# Altium footprint library Ad_Hoc_Parts.PcbLib: 25 footprints (part 1 of 2)
Each footprint in its own frame and in the unit in brackets; x right, y up, seen from the top. Pads: shape width x height; smd on the part's side, far side on the other; paste and mask are expansions set on the pad; w line width, h text height; cw(c..) or ccw(c..) is an arc to the next point about the centre after c.
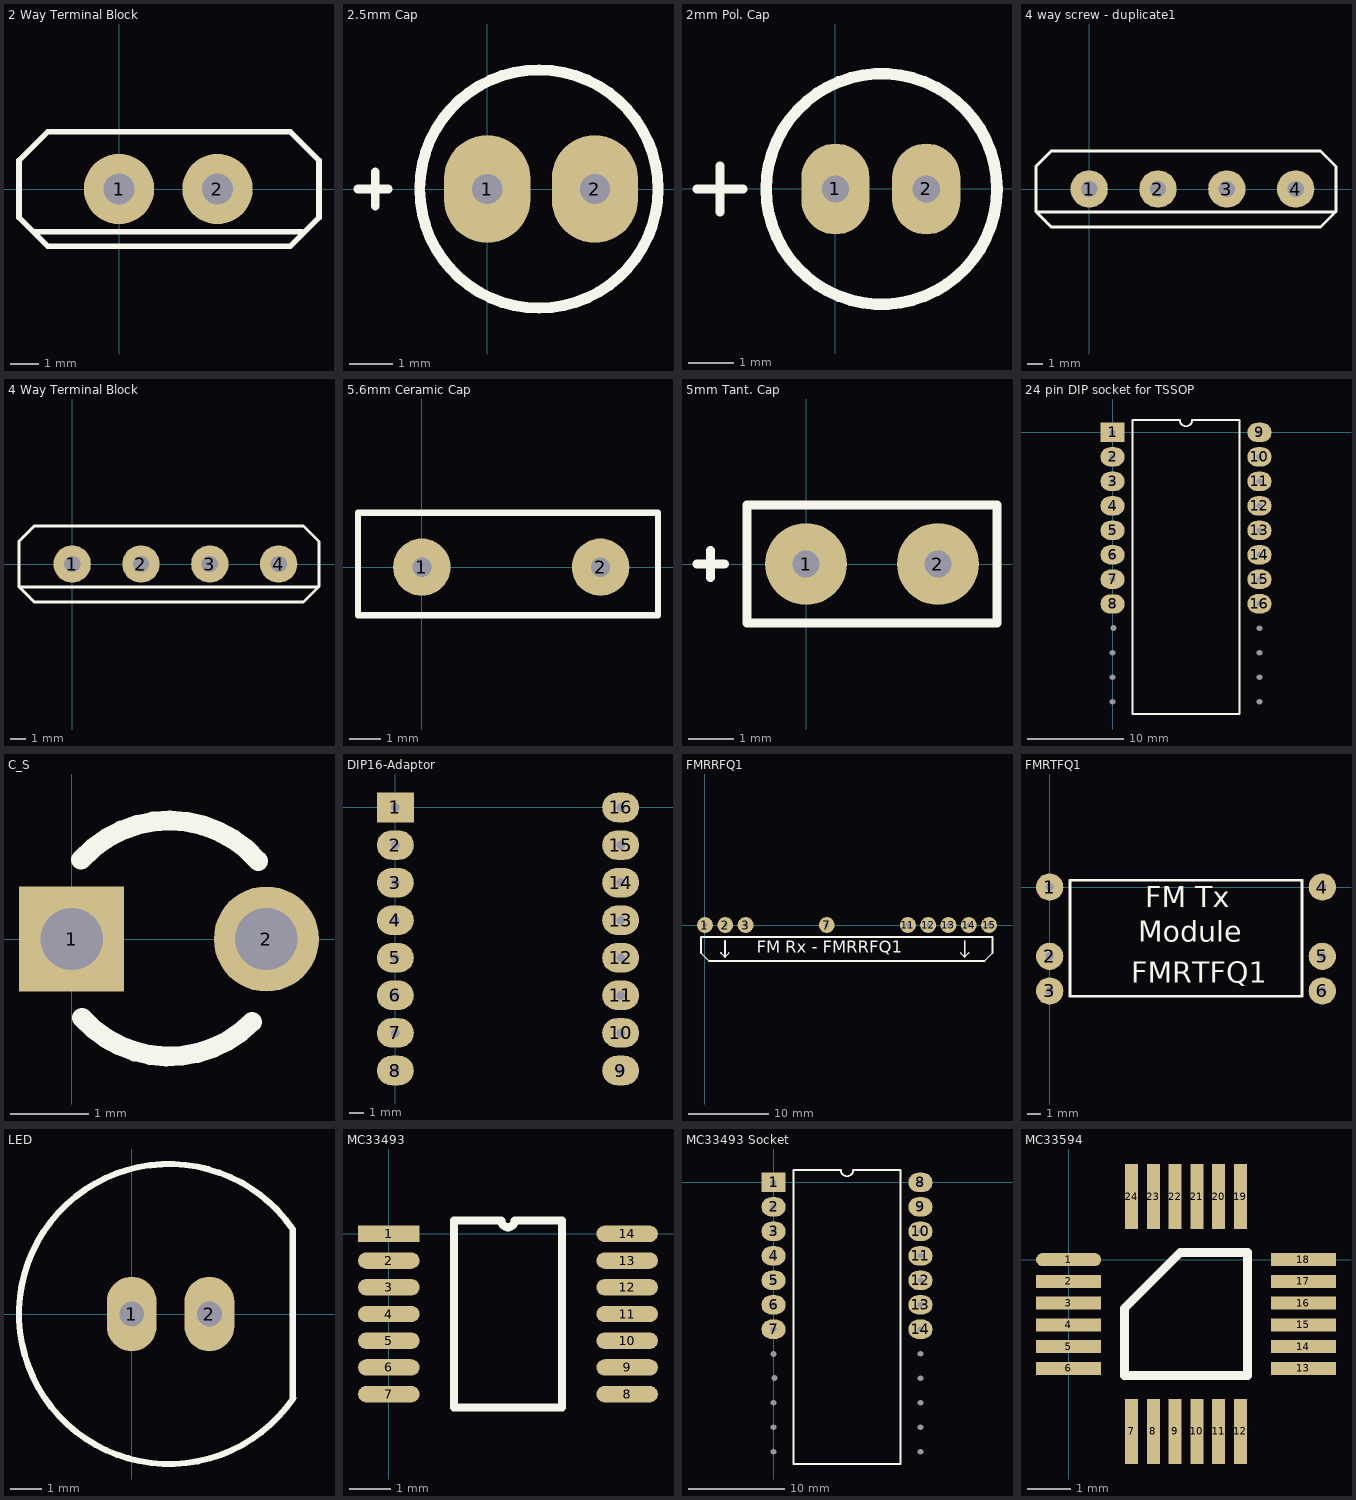
[diagram p0: the footprints below, top view; thin cyan lines are the x and y axes]

## 2 Way Terminal Block [mm]
pads (2):
  round 2.5 hole 1.1: 1(0,0) 2(3.5,0)
Top Overlay:
  lines w0.2: -3.048,-1.524 6.506,-1.524 ; -3.556,-1.016 -2.54,-2.032 2.032,-2.032 6.096,-2.032 7.112,-1.016 7.112,1.016 6.096,2.032 -2.54,2.032 -3.556,1.016 -3.556,-1.016

## 2.5mm Cap [mm]
pads (2):
  oval 2x2.5 hole 0.7: 1(0,0) 2(2.5,0)
Top Overlay:
  circle w0.254: c1.2,0 r2.766
  lines w0.2: -3,0 -2.7,0 -2.3,0 ; -2.6,-0.4 -2.6,0.4

## 2mm Pol. Cap [mm]
pads (2):
  oval 1.5x2 hole 0.6: 1(0,0) 2(2,0)
Top Overlay:
  circle w0.254: c1.016,0 r2.54
  lines w0.2: -3.048,0 -2.032,0 ; -2.54,-0.508 -2.54,0.508

## 4 way screw - duplicate1 [mm]
pads (4):
  round 2.5 hole 1.1: 1(0,0) 2(4.6,0) 3(9.2,0) 4(13.8,0)
Top Overlay:
  lines w0.2: -3.556,-1.524 16.476,-1.524 16.5,-1.5 ; -3.556,-1.524 -3.556,1.524 -2.54,2.54 15.46,2.54 16.5,1.5 16.5,-1.5 ; -3.556,-1.524 -2.54,-2.54 15.46,-2.54 16.5,-1.5

## 4 Way Terminal Block [mm]
pads (4):
  round 2.5 hole 1.1: 1(0,0) 2(4.6,0) 3(9.2,0) 4(13.8,0)
Top Overlay:
  lines w0.2: -3.556,-1.524 -2.54,-2.54 15.46,-2.54 16.5,-1.5 ; -3.556,-1.524 -3.556,1.524 -2.54,2.54 15.46,2.54 16.5,1.5 16.5,-1.5 ; -3.556,-1.524 16.476,-1.524 16.5,-1.5

## 5.6mm Ceramic Cap [mm]
pads (2):
  round 1.8 hole 0.6: 1(0,0) 2(5.6,0)
Top Overlay:
  lines w0.2: -2,-1.5 7.4,-1.5 7.4,1.7 -1.8,1.7 -2,1.7 -2,-1.5

## 5mm Tant. Cap [mm]
pads (2):
  round 1.8 hole 0.6: 1(0,0) 2(2.9,0)
Top Overlay:
  lines w0.2: -2.4,0 -1.8,0 ; -2.1,-0.3 -2.1,0.3 ; -1.3,-1.3 -1.3,1.3 4.2,1.3 4.2,-1.3 -1.3,-1.3

## 24 pin DIP socket for TSSOP [mm]
pads (24):
  rect 2.5x2 hole 0.6: 1(0,0)
  oval 2.5x2 hole 0.6: 2(0,-2.54) 3(0,-5.08) 4(0,-7.62) 5(0,-10.16) 6(0,-12.7) 7(0,-15.24) 8(0,-17.8) 9(15.24,0) 10(15.24,-2.54) 11(15.24,-5.08) 12(15.24,-7.62) 13(15.24,-10.16) 14(15.24,-12.7) 15(15.24,-15.24) 16(15.24,-17.78)
  round 0 hole 0.6: ""(0,-27.94) ""(0,-25.4) ""(0,-22.86) ""(0.1,-20.3) ""(15.24,-27.94) ""(15.24,-25.4) ""(15.24,-22.86) ""(15.24,-20.32)
Top Overlay:
  lines w0.2: 2.085,-29.21 2.085,1.27 6.985,1.27 ccw(c7.62,1.27) 8.255,1.27 13.155,1.27 13.155,-29.21 2.085,-29.21

## C_S [mm]
pads (2):
  rect 1.35x1.35 hole 0.8: 1(0,0)
  round 1.35 hole 0.8: 2(2.5,0)
Top Overlay:
  lines w0.254: 0.12,1.017 cw(c1.25,0) 2.394,1.001 ; 0.132,-1.011 ccw(c1.25,0) 2.316,-1.066

## DIP16-Adaptor [mm]
pads (16):
  rect 2.5x2 hole 0.6: 1(0,0)
  oval 2.5x2 hole 0.6: 2(0,-2.54) 3(0,-5.08) 4(0,-7.62) 5(0,-10.16) 6(0,-12.7) 7(0,-15.24) 8(0,-17.78) 9(15.24,-17.78) 10(15.24,-15.24) 11(15.24,-12.7) 12(15.24,-10.16) 13(15.24,-7.62) 14(15.24,-5.08) 15(15.24,-2.54) 16(15.24,0)

## FMRRFQ1 [mm]
pads (9):
  round 2 hole 0.6: 1(0,0) 2(2.54,0) 3(5.08,0) 7(15.24,0) 11(25.4,0) 12(27.94,0) 13(30.48,0) 14(33.02,0) 15(35.56,0)
Top Overlay:
  lines w0.2: 2,-3.5 2.5,-4 ; 2.5,-2 2.5,-4 ; 3,-3.5 2.5,-4 ; 32,-3.5 32.5,-4 ; 32.5,-2 32.5,-4 ; 33,-3.5 32.5,-4 ; 32.5,-4 32.5,-4 ; -0.5,-3.5 -0.5,-1.5 36,-1.5 36,-3.5 35,-4.5 0.5,-4.5 -0.5,-3.5
  text "FM Rx - FMRRFQ1" at 6.5,-3.5 h1.52

## FMRTFQ1 [mm]
pads (6):
  round 2 hole 0.6: 1(0,0) 2(0,-5.08) 3(0,-7.62) 4(20,0) 5(20,-5.08) 6(20,-7.62)
Top Overlay:
  lines w0.2: 1.5,-8 1.5,0.5 18.5,0.5 18.5,-8 1.5,-8
  text "FMRTFQ1" at 6,-7 h1.52
  text "Module" at 6.5,-4 h1.52
  text "FM Tx" at 7,-1.5 h1.52

## LED [mm]
pads (2):
  oval 1.6x2.4 hole 0.8: 1(0,0) 2(2.5,0)
Top Overlay:
  lines w0.2: 5.2,-2.7 5.184,-2.684 5.184,2.726 ccw(c1.2,0) 5.201,-2.701

## MC33493 [mm]
pads (14):
  rect 1.5x0.4 smd: 1(0,0)
  oval 1.5x0.4 smd: 2(0,-0.65) 3(0,-1.3) 4(0,-1.95) 5(0,-2.6) 6(0,-3.25) 7(0,-3.9) 8(5.8,-3.9) 9(5.8,-3.25) 10(5.8,-2.6) 11(5.8,-1.95) 12(5.8,-1.3) 13(5.8,-0.65) 14(5.8,0)
Top Overlay:
  lines w0.2: 1.585,-4.225 1.585,0.325 2.738,0.325 ccw(c2.9,0.325) 3.062,0.325 4.215,0.325 4.215,-4.225 1.585,-4.225

## MC33493 Socket [mm]
pads (24):
  rect 2.5x2 hole 0.6: 1(0,0)
  oval 2.5x2 hole 0.6: 2(0,-2.54) 3(0,-5.08) 4(0,-7.62) 5(0,-10.16) 6(0,-12.7) 7(0,-15.24) 8(15.24,0) 9(15.24,-2.54) 10(15.24,-5.08) 11(15.24,-7.62) 12(15.24,-10.16) 13(15.24,-12.7) 14(15.24,-15.24)
  round 0 hole 0.6: ""(0,-27.94) ""(0,-25.4) ""(0,-22.86) ""(0,-17.8) ""(0.1,-20.3) ""(15.24,-27.94) ""(15.24,-25.4) ""(15.24,-22.86) ""(15.24,-20.32) ""(15.24,-17.78)
Top Overlay:
  lines w0.2: 2.085,-29.21 13.155,-29.21 13.155,1.27 8.255,1.27 cw(c7.62,1.27) 6.985,1.27 2.085,1.27 2.085,-29.21

## MC33594 [mm]
pads (24):
  oval 1.5x0.3 smd: 1(0,0)
  rect 1.5x0.3 smd: 2(0,-0.5) 3(0,-1) 4(0,-1.5) 5(0,-2) 6(0,-2.5) 13(5.4,-2.5) 14(5.4,-2) 15(5.4,-1.5) 16(5.4,-1) 17(5.4,-0.5) 18(5.4,0)
  rect 0.3x1.5 smd: 7(1.45,-3.95) 8(1.95,-3.95) 9(2.45,-3.95) 10(2.95,-3.95) 11(3.45,-3.95) 12(3.95,-3.95) 19(3.95,1.45) 20(3.45,1.45) 21(2.95,1.45) 22(2.45,1.45) 23(1.95,1.45) 24(1.45,1.45)
Top Overlay:
  lines w0.2: 1.285,-2.665 1.285,-1.12 2.57,0.165 4.115,0.165 4.115,-2.665 1.285,-2.665